# EAGLE library part HEADER_MSP430 (library Stofer)
FEMALE HEADER
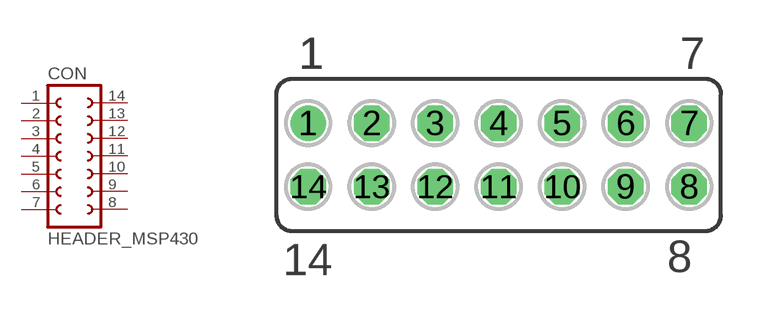
[diagram p2: symbol with the pads of FE07-2; footprint FE07-2]

Designator prefix CON

## HEADER_MSP430  [FE07-2]
1  1  pas
2  2  pas
3  3  pas
4  4  pas
5  5  pas
6  6  pas
7  7  pas
8  8  pas
9  9  pas
10  10  pas
11  11  pas
12  12  pas
13  13  pas
14  14  pas

## Footprint FE07-2 (pad centres in mm)
FEMALE HEADER
drill 0.914 round: 1 -7.62,1.27
drill 0.914 octagon: 2 -5.08,1.27; 3 -2.54,1.27; 4 0,1.27; 5 2.54,1.27; 6 5.08,1.27; 7 7.62,1.27; 8 7.62,-1.27; 9 5.08,-1.27; 10 2.54,-1.27; 11 0,-1.27; 12 -2.54,-1.27; 13 -5.08,-1.27; 14 -7.62,-1.27